# Altium schematic symbol library RJ24FW103.SchLib: 1 symbol
Pins are listed as number, name and electrical type; pins without a type are passive.

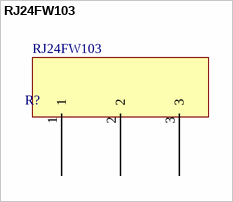
[diagram p0: symbol RJ24FW103]

## RJ24FW103
designator R?
footprint SIP3
pins: 1, 2, 3